# EAGLE library part DOME-KEY (library print-key)
Dome key
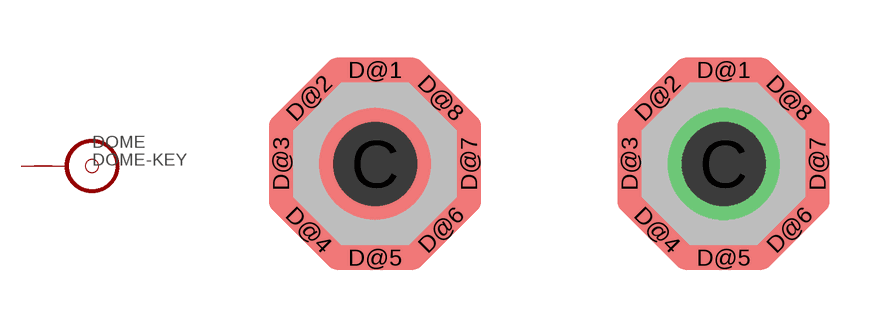
[diagram p1: symbol with the pads of DOME2; footprints DOME2, DOME0]

Designator prefix DOME

## DOME-KEY1  [DOME2]
C  C  pas
D@1  D  in
D@2  D  in
D@3  D  in
D@4  D  in
D@5  D  in
D@6  D  in
D@7  D  in
D@8  D  pas

## DOME-KEY0  [DOME0]
Pads as for DOME2

## Footprint DOME2 (pad centres in mm)
Dome key
smd 2.8 x 2.8: C 0,0
smd 2.5 x 0.6: D@1 0,2.35; D@5 0,-2.35
smd 2.5 x 0.6 rotated 45: D@2 -1.65,1.65
smd 0.6 x 2.5: D@3 -2.35,0; D@7 2.35,0
smd 2.5 x 0.6 rotated 135: D@4 -1.65,-1.65
smd 2.5 x 0.6 rotated 225: D@6 1.65,-1.65
smd 2.5 x 0.6 rotated 315: D@8 1.65,1.65

## Footprint DOME0 (pad centres in mm)
Dome key
drill 0.5 pad 2.8 round: C 0,0
smd 2.5 x 0.6: D@1 0,2.35; D@5 0,-2.35
smd 2.5 x 0.6 rotated 45: D@2 -1.65,1.65
smd 0.6 x 2.5: D@3 -2.35,0; D@7 2.35,0
smd 2.5 x 0.6 rotated 135: D@4 -1.65,-1.65
smd 2.5 x 0.6 rotated 225: D@6 1.65,-1.65
smd 2.5 x 0.6 rotated 315: D@8 1.65,1.65